# Altium integrated library NSC Video Signal Processor.IntLib: 1 symbol
Pins are listed as number, name and electrical type; pins without a type are passive.

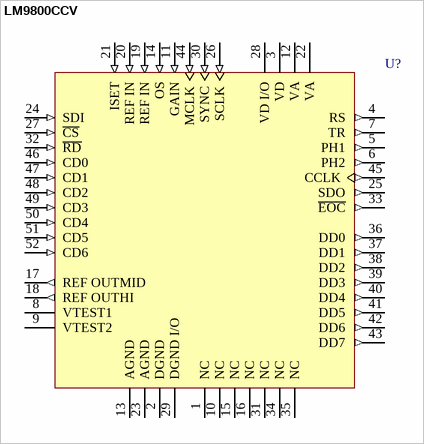
[diagram p0: symbol LM9800CCV]

## LM9800CCV
designator U?
8-Bit Greyscale/24-Bit Colour Linear CCD Sensor; ComponentAvailability: Obsolete; Published: 15-Apr-2002; LatestRevisionDate: 13-Apr-2006; LatestRevisionNote: IPC-7351 Footprint Added.; DatasheetVersion: Sep-1997; PackageReference: V52A; Publisher: Altium Limited; PackageDescription: 52-Pin Leaded Chip Carrier 1.27 mm Pitch; Code_IPC: PLCC-52; ComponentLink1Description: Manufacturer Link; ComponentLink1URL: http://www.national.com/; ComponentLink2Description: Discontinuation Notice; ComponentLink2URL: http://www.national.com/obs/obsolescence.txt; ComponentLink3Description: URL Link1; ComponentLink3URL: http://www.national.com/pf/LM/LM9800.html
footprint V52A_N (Leaded Chip Carrier, 52-Leads, Body 19x19mm, Pitch 1.27mm, IPC Medium Density)
footprint V52A_L (Leaded Chip Carrier, 52-Leads, Body 19x19mm, Pitch 1.27mm, IPC High Density)
footprint V52A_M (Leaded Chip Carrier, 52-Leads, Body 19x19mm, Pitch 1.27mm, IPC Low Density)
3D model LM9800-V52A (52-Pin Leaded Chip Carrier 1.27 mm Pitch)
pins: 1 NC, 2 DGND (power), 3 VD (power), 4 RS (out), 5 PH1 (out), 6 PH2 (out), 7 TR (out), 8 VTEST1, 9 VTEST2, 10 NC, 11 GAIN (in), 12 VA (power), 13 AGND (power), 14 OS (in), 15 NC, 16 NC, 17 REF OUTMID (out), 18 REF OUTHI (out), 19 REF IN (in), 20 REF IN (in), 21 ISET (in), 22 VA (power), 23 AGND (power), 24 SDI (in), 25 SDO (out), 26 SCLK (in), 27 ~{CS} (in), 28 VD I/O (power), 29 DGND I/O (power), 30 SYNC (in), 31 NC, 32 ~{RD} (in), 33 ~{EOC} (out), 34 NC, 35 NC, 36 DD0 (out), 37 DD1 (out), 38 DD2 (out), 39 DD3 (out), 40 DD4 (out), 41 DD5 (out), 42 DD6 (out), 43 DD7 (out), 44 MCLK (in), 45 CCLK (out), 46 CD0 (in), 47 CD1 (in), 48 CD2 (in), 49 CD3 (in), 50 CD4 (in), 51 CD5 (in), 52 CD6 (in)